# Altium footprint library 5M160ZE64.PcbLib: 9 footprints
Each footprint in its own frame and in the unit in brackets; x right, y up, seen from the top. Pads: shape width x height; smd on the part's side, far side on the other; paste and mask are expansions set on the pad; w line width, h text height; cw(c..) or ccw(c..) is an arc to the next point about the centre after c.
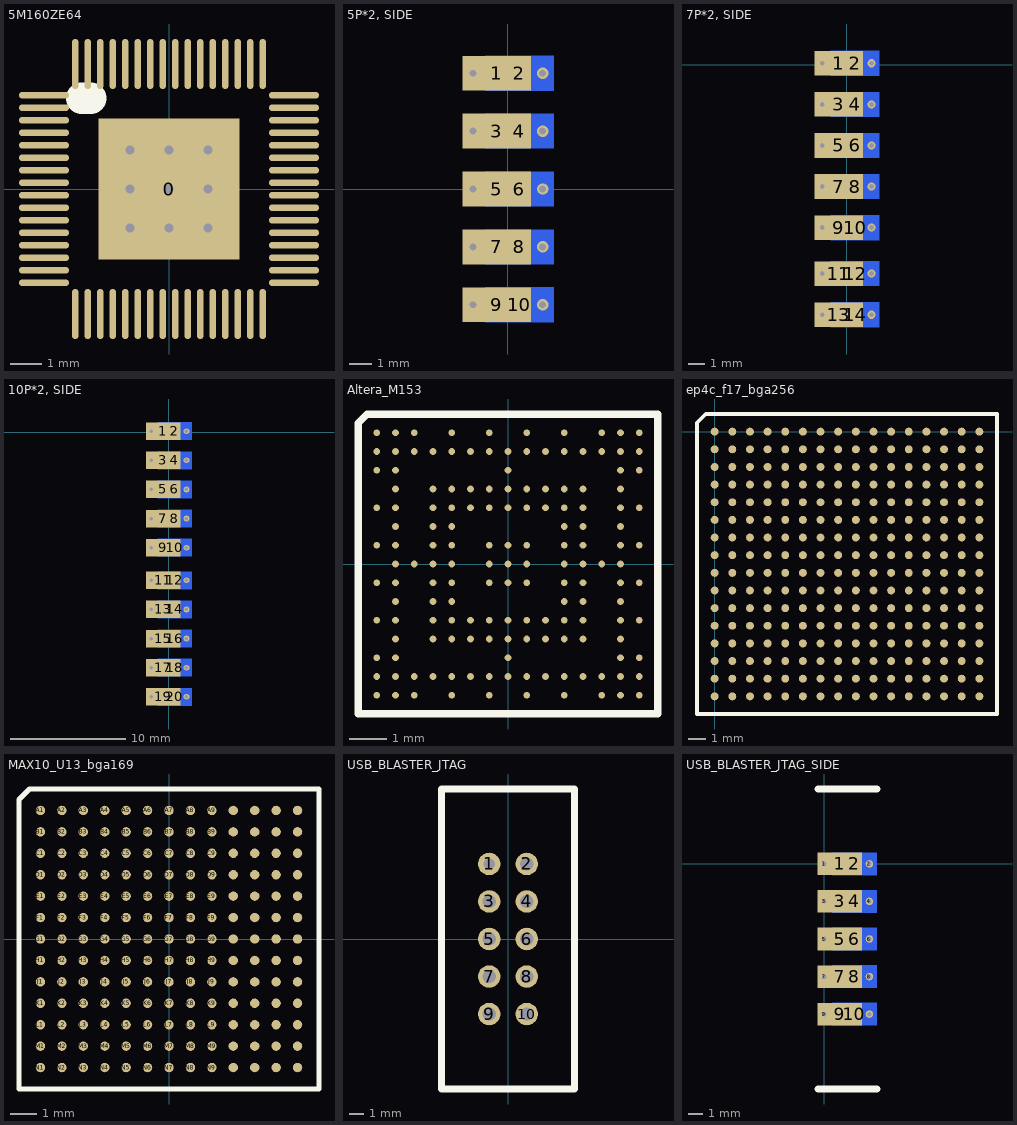
[diagram p0: the footprints below, top view; thin cyan lines are the x and y axes]

## 5M160ZE64 [mm]
pads (65):
  rect 4.5x4.5 smd: 0(0,0)
  oval 1.6x0.2 smd: 1(-4,3) 2(-4,2.6) 3(-4,2.2) 4(-4,1.8) 5(-4,1.4) 6(-4,1) 7(-4,0.6) 8(-4,0.2) 9(-4,-0.2) 10(-4,-0.6) 11(-4,-1) 12(-4,-1.4) 13(-4,-1.8) 14(-4,-2.2) 15(-4,-2.6) 16(-4,-3) 33(4,-3) 34(4,-2.6) 35(4,-2.2) 36(4,-1.8) 37(4,-1.4) 38(4,-1) 39(4,-0.6) 40(4,-0.2) 41(4,0.2) 42(4,0.6) 43(4,1) 44(4,1.4) 45(4,1.8) 46(4,2.2) 47(4,2.6) 48(4,3)
  oval 0.2x1.6 smd: 17(-3,-4) 18(-2.6,-4) 19(-2.2,-4) 20(-1.8,-4) 21(-1.4,-4) 22(-1,-4) 23(-0.6,-4) 24(-0.2,-4) 25(0.2,-4) 26(0.6,-4) 27(1,-4) 28(1.4,-4) 29(1.8,-4) 30(2.2,-4) 31(2.6,-4) 32(3,-4) 49(3,4) 50(2.6,4) 51(2.2,4) 52(1.8,4) 53(1.4,4) 54(1,4) 55(0.6,4) 56(0.2,4) 57(-0.2,4) 58(-0.6,4) 59(-1,4) 60(-1.4,4) 61(-1.8,4) 62(-2.2,4) 63(-2.6,4) 64(-3,4)
via 1.25,-1.25 diameter 0.5 hole 0.3
via 0,-1.25 diameter 0.5 hole 0.3
via -1.25,-1.25 diameter 0.5 hole 0.3
via -1.25,0 diameter 0.5 hole 0.3
via -1.25,1.25 diameter 0.5 hole 0.3
via 0,1.25 diameter 0.5 hole 0.3
via 1.25,1.25 diameter 0.5 hole 0.3
via 1.25,0 diameter 0.5 hole 0.3
via 0,0 diameter 0.5 hole 0.3
Top Overlay:
  lines w1: -2.8,2.9 -2.5,2.9
3D body: height 1, standoff 0, extent -3.5,-3.5 3.5,3.5

## 5P*2, SIDE [mm]
pads (10):
  rect 3x1.524 smd: 1(-0.5,5.08) 3(-0.5,2.54) 5(-0.5,0) 7(-0.5,-2.54) 9(-0.5,-5.08)
  rect 3x1.524 smd far side: 2(0.5,5.08) 4(0.5,2.54) 6(0.5,0) 8(0.5,-2.54) 10(0.5,-5.08)
via -1.532,5.08 diameter 0.5 hole 0.3
via -1.532,2.54 diameter 0.5 hole 0.3
via -1.532,0 diameter 0.5 hole 0.3
via -1.532,-2.54 diameter 0.5 hole 0.3
via -1.532,-5.08 diameter 0.5 hole 0.3
via 1.516,5.08 diameter 0.5 hole 0.3
via 1.516,2.54 diameter 0.5 hole 0.3
via 1.516,0 diameter 0.5 hole 0.3
via 1.516,-2.54 diameter 0.5 hole 0.3
via 1.516,-5.08 diameter 0.5 hole 0.3

## 7P*2, SIDE [mm]
pads (14):
  rect 3x1.524 smd: 1(-0.5,0.08) 3(-0.5,-2.46) 5(-0.5,-5) 7(-0.5,-7.54) 9(-0.5,-10.08) 11(-0.5,-12.92) 13(-0.5,-15.46)
  rect 3x1.524 smd far side: 2(0.5,0.08) 4(0.5,-2.46) 6(0.5,-5) 8(0.5,-7.54) 10(0.5,-10.08) 12(0.5,-12.92) 14(0.5,-15.46)
via -1.532,-12.92 diameter 0.5 hole 0.3
via -1.532,-15.46 diameter 0.5 hole 0.3
via 1.516,-12.92 diameter 0.5 hole 0.3
via 1.516,-15.46 diameter 0.5 hole 0.3
via 1.516,-10.08 diameter 0.5 hole 0.3
via 1.516,-7.54 diameter 0.5 hole 0.3
via 1.516,-5 diameter 0.5 hole 0.3
via 1.516,-2.46 diameter 0.5 hole 0.3
via 1.516,0.08 diameter 0.5 hole 0.3
via -1.532,-10.08 diameter 0.5 hole 0.3
via -1.532,-7.54 diameter 0.5 hole 0.3
via -1.532,-5 diameter 0.5 hole 0.3
via -1.532,-2.46 diameter 0.5 hole 0.3
via -1.532,0.08 diameter 0.5 hole 0.3

## 10P*2, SIDE [mm]
pads (20):
  rect 3x1.524 smd: 1(-0.5,0.08) 3(-0.5,-2.46) 5(-0.5,-5) 7(-0.5,-7.54) 9(-0.5,-10.08) 11(-0.5,-12.92) 13(-0.5,-15.46) 15(-0.5,-18) 17(-0.5,-20.54) 19(-0.5,-23.08)
  rect 3x1.524 smd far side: 2(0.5,0.08) 4(0.5,-2.46) 6(0.5,-5) 8(0.5,-7.54) 10(0.5,-10.08) 12(0.5,-12.92) 14(0.5,-15.46) 16(0.5,-18) 18(0.5,-20.54) 20(0.5,-23.08)
via -1.532,-12.92 diameter 0.5 hole 0.3
via -1.532,-15.46 diameter 0.5 hole 0.3
via -1.532,-18 diameter 0.5 hole 0.3
via -1.532,-20.54 diameter 0.5 hole 0.3
via -1.532,-23.08 diameter 0.5 hole 0.3
via 1.516,-12.92 diameter 0.5 hole 0.3
via 1.516,-15.46 diameter 0.5 hole 0.3
via 1.516,-18 diameter 0.5 hole 0.3
via 1.516,-20.54 diameter 0.5 hole 0.3
via 1.516,-23.08 diameter 0.5 hole 0.3
via 1.516,-10.08 diameter 0.5 hole 0.3
via 1.516,-7.54 diameter 0.5 hole 0.3
via 1.516,-5 diameter 0.5 hole 0.3
via 1.516,-2.46 diameter 0.5 hole 0.3
via 1.516,0.08 diameter 0.5 hole 0.3
via -1.532,-10.08 diameter 0.5 hole 0.3
via -1.532,-7.54 diameter 0.5 hole 0.3
via -1.532,-5 diameter 0.5 hole 0.3
via -1.532,-2.46 diameter 0.5 hole 0.3
via -1.532,0.08 diameter 0.5 hole 0.3

## Altera_M153 [mm]
pads (153):
  round 0.18 smd: A1(-3.5,3.5) A2(-3,3.5) A3(-2.5,3.5) A5(-1.5,3.5) A7(-0.5,3.5) A9(0.5,3.5) A11(1.5,3.5) A13(2.5,3.5) A14(3,3.5) A15(3.5,3.5) B1(-3.5,3) B2(-3,3) B3(-2.5,3) B4(-2,3) B5(-1.5,3) B6(-1,3) B7(-0.5,3) B8(0,3) B9(0.5,3) B10(1,3) B11(1.5,3) B12(2,3) B13(2.5,3) B14(3,3) B15(3.5,3) C1(-3.5,2.5) C2(-3,2.5) C8(0,2.5) C14(3,2.5) C15(3.5,2.5) D2(-3,2) D4(-2,2) D5(-1.5,2) D6(-1,2) D7(-0.5,2) D8(0,2) D9(0.5,2) D10(1,2) D11(1.5,2) D12(2,2) D14(3,2) E1(-3.5,1.5) E2(-3,1.5) E4(-2,1.5) E5(-1.5,1.5) E6(-1,1.5) E7(-0.5,1.5) E8(0,1.5) E9(0.5,1.5) E10(1,1.5) E11(1.5,1.5) E12(2,1.5) E14(3,1.5) E15(3.5,1.5) F2(-3,1) F4(-2,1) F5(-1.5,1) F11(1.5,1) F12(2,1) F14(3,1) G1(-3.5,0.5) G2(-3,0.5) G4(-2,0.5) G5(-1.5,0.5) G7(-0.5,0.5) G8(0,0.5) G9(0.5,0.5) G11(1.5,0.5) G12(2,0.5) G14(3,0.5) G15(3.5,0.5) H2(-3,0) H3(-2.5,0) H4(-2,0) H5(-1.5,0) H7(-0.5,0) H8(0,0) H9(0.5,0) H11(1.5,0) H12(2,0) H13(2.5,0) H14(3,0) J1(-3.5,-0.5) J2(-3,-0.5) J4(-2,-0.5) J5(-1.5,-0.5) J7(-0.5,-0.5) J8(0,-0.5) J9(0.5,-0.5) J11(1.5,-0.5) J12(2,-0.5) J14(3,-0.5) J15(3.5,-0.5) K2(-3,-1) K4(-2,-1) K5(-1.5,-1) K11(1.5,-1) K12(2,-1) K14(3,-1) L1(-3.5,-1.5) L2(-3,-1.5) L4(-2,-1.5) L5(-1.5,-1.5) L6(-1,-1.5) L7(-0.5,-1.5) L8(0,-1.5) L9(0.5,-1.5) L10(1,-1.5) L11(1.5,-1.5) L12(2,-1.5) L14(3,-1.5) L15(3.5,-1.5) M2(-3,-2) M4(-2,-2) M5(-1.5,-2) M6(-1,-2) M7(-0.5,-2) M8(0,-2) M9(0.5,-2) M10(1,-2) M11(1.5,-2) M12(2,-2) M14(3,-2) N1(-3.5,-2.5) N2(-3,-2.5) N8(0,-2.5) N14(3,-2.5) N15(3.5,-2.5) P1(-3.5,-3) P2(-3,-3) P3(-2.5,-3) P4(-2,-3) P5(-1.5,-3) P6(-1,-3) P7(-0.5,-3) P8(0,-3) P9(0.5,-3) P10(1,-3) P11(1.5,-3) P12(2,-3) P13(2.5,-3) P14(3,-3) P15(3.5,-3) R1(-3.5,-3.5) R2(-3,-3.5) R3(-2.5,-3.5) R5(-1.5,-3.5) R7(-0.5,-3.5) R9(0.5,-3.5) R11(1.5,-3.5) R13(2.5,-3.5) R14(3,-3.5) R15(3.5,-3.5)
Top Overlay:
  lines w0.2: -4,-4 -4,3.75 -3.75,4 4,4 4,-4 -4,-4

## ep4c_f17_bga256 [mm]
pads (256):
  round 0.45 smd: A1(0,0) A2(1,0) A3(2,0) A4(3,0) A5(4,0) A6(5,0) A7(6,0) A8(7,0) A9(8,0) A10(9,0) A11(10,0) A12(11,0) A13(12,0) A14(13,0) A15(14,0) A16(15,0) B1(0,-1) B2(1,-1) B3(2,-1) B4(3,-1) B5(4,-1) B6(5,-1) B7(6,-1) B8(7,-1) B9(8,-1) B10(9,-1) B11(10,-1) B12(11,-1) B13(12,-1) B14(13,-1) B15(14,-1) B16(15,-1) C1(0,-2) C2(1,-2) C3(2,-2) C4(3,-2) C5(4,-2) C6(5,-2) C7(6,-2) C8(7,-2) C9(8,-2) C10(9,-2) C11(10,-2) C12(11,-2) C13(12,-2) C14(13,-2) C15(14,-2) C16(15,-2) D1(0,-3) D2(1,-3) D3(2,-3) D4(3,-3) D5(4,-3) D6(5,-3) D7(6,-3) D8(7,-3) D9(8,-3) D10(9,-3) D11(10,-3) D12(11,-3) D13(12,-3) D14(13,-3) D15(14,-3) D16(15,-3) E1(0,-4) E2(1,-4) E3(2,-4) E4(3,-4) E5(4,-4) E6(5,-4) E7(6,-4) E8(7,-4) E9(8,-4) E10(9,-4) E11(10,-4) E12(11,-4) E13(12,-4) E14(13,-4) E15(14,-4) E16(15,-4) F1(0,-5) F2(1,-5) F3(2,-5) F4(3,-5) F5(4,-5) F6(5,-5) F7(6,-5) F8(7,-5) F9(8,-5) F10(9,-5) F11(10,-5) F12(11,-5) F13(12,-5) F14(13,-5) F15(14,-5) F16(15,-5) G1(0,-6) G2(1,-6) G3(2,-6) G4(3,-6) G5(4,-6) G6(5,-6) G7(6,-6) G8(7,-6) G9(8,-6) G10(9,-6) G11(10,-6) G12(11,-6) G13(12,-6) G14(13,-6) G15(14,-6) G16(15,-6) H1(0,-7) H2(1,-7) H3(2,-7) H4(3,-7) H5(4,-7) H6(5,-7) H7(6,-7) H8(7,-7) H9(8,-7) H10(9,-7) H11(10,-7) H12(11,-7) H13(12,-7) H14(13,-7) H15(14,-7) H16(15,-7) J1(0,-8) J2(1,-8) J3(2,-8) J4(3,-8) J5(4,-8) J6(5,-8) J7(6,-8) J8(7,-8) J9(8,-8) J10(9,-8) J11(10,-8) J12(11,-8) J13(12,-8) J14(13,-8) J15(14,-8) J16(15,-8) K1(0,-9) K2(1,-9) K3(2,-9) K4(3,-9) K5(4,-9) K6(5,-9) K7(6,-9) K8(7,-9) K9(8,-9) K10(9,-9) K11(10,-9) K12(11,-9) K13(12,-9) K14(13,-9) K15(14,-9) K16(15,-9) L1(0,-10) L2(1,-10) L3(2,-10) L4(3,-10) L5(4,-10) L6(5,-10) L7(6,-10) L8(7,-10) L9(8,-10) L10(9,-10) L11(10,-10) L12(11,-10) L13(12,-10) L14(13,-10) L15(14,-10) L16(15,-10) M1(0,-11) M2(1,-11) M3(2,-11) M4(3,-11) M5(4,-11) M6(5,-11) M7(6,-11) M8(7,-11) M9(8,-11) M10(9,-11) M11(10,-11) M12(11,-11) M13(12,-11) M14(13,-11) M15(14,-11) M16(15,-11) N1(0,-12) N2(1,-12) N3(2,-12) N4(3,-12) N5(4,-12) N6(5,-12) N7(6,-12) N8(7,-12) N9(8,-12) N10(9,-12) N11(10,-12) N12(11,-12) N13(12,-12) N14(13,-12) N15(14,-12) N16(15,-12) P1(0,-13) P2(1,-13) P3(2,-13) P4(3,-13) P5(4,-13) P6(5,-13) P7(6,-13) P8(7,-13) P9(8,-13) P10(9,-13) P11(10,-13) P12(11,-13) P13(12,-13) P14(13,-13) P15(14,-13) P16(15,-13) R1(0,-14) R2(1,-14) R3(2,-14) R4(3,-14) R5(4,-14) R6(5,-14) R7(6,-14) R8(7,-14) R9(8,-14) R10(9,-14) R11(10,-14) R12(11,-14) R13(12,-14) R14(13,-14) R15(14,-14) R16(15,-14) T1(0,-15) T2(1,-15) T3(2,-15) T4(3,-15) T5(4,-15) T6(5,-15) T7(6,-15) T8(7,-15) T9(8,-15) T10(9,-15) T11(10,-15) T12(11,-15) T13(12,-15) T14(13,-15) T15(14,-15) T16(15,-15)
Top Overlay:
  lines w0.2: -1,-16 -1,0.5 -0.5,1 16,1 16,-16 -1,-16

## MAX10_U13_bga169 [mm]
pads (169):
  round 0.35 smd: A1(-4.8,4.8) A2(-4,4.8) A3(-3.2,4.8) A4(-2.4,4.8) A5(-1.6,4.8) A6(-0.8,4.8) A7(0,4.8) A8(0.8,4.8) A9(1.6,4.8) A10(2.4,4.8) A11(3.2,4.8) A12(4,4.8) A13(4.8,4.8) B1(-4.8,4) B2(-4,4) B3(-3.2,4) B4(-2.4,4) B5(-1.6,4) B6(-0.8,4) B7(0,4) B8(0.8,4) B9(1.6,4) B10(2.4,4) B11(3.2,4) B12(4,4) B13(4.8,4) C1(-4.8,3.2) C2(-4,3.2) C3(-3.2,3.2) C4(-2.4,3.2) C5(-1.6,3.2) C6(-0.8,3.2) C7(0,3.2) C8(0.8,3.2) C9(1.6,3.2) C10(2.4,3.2) C11(3.2,3.2) C12(4,3.2) C13(4.8,3.2) D1(-4.8,2.4) D2(-4,2.4) D3(-3.2,2.4) D4(-2.4,2.4) D5(-1.6,2.4) D6(-0.8,2.4) D7(0,2.4) D8(0.8,2.4) D9(1.6,2.4) D10(2.4,2.4) D11(3.2,2.4) D12(4,2.4) D13(4.8,2.4) E1(-4.8,1.6) E2(-4,1.6) E3(-3.2,1.6) E4(-2.4,1.6) E5(-1.6,1.6) E6(-0.8,1.6) E7(0,1.6) E8(0.8,1.6) E9(1.6,1.6) E10(2.4,1.6) E11(3.2,1.6) E12(4,1.6) E13(4.8,1.6) F1(-4.8,0.8) F2(-4,0.8) F3(-3.2,0.8) F4(-2.4,0.8) F5(-1.6,0.8) F6(-0.8,0.8) F7(0,0.8) F8(0.8,0.8) F9(1.6,0.8) F10(2.4,0.8) F11(3.2,0.8) F12(4,0.8) F13(4.8,0.8) G1(-4.8,0) G2(-4,0) G3(-3.2,0) G4(-2.4,0) G5(-1.6,0) G6(-0.8,0) G7(0,0) G8(0.8,0) G9(1.6,0) G10(2.4,0) G11(3.2,0) G12(4,0) G13(4.8,0) H1(-4.8,-0.8) H2(-4,-0.8) H3(-3.2,-0.8) H4(-2.4,-0.8) H5(-1.6,-0.8) H6(-0.8,-0.8) H7(0,-0.8) H8(0.8,-0.8) H9(1.6,-0.8) H10(2.4,-0.8) H11(3.2,-0.8) H12(4,-0.8) H13(4.8,-0.8) J1(-4.8,-1.6) J2(-4,-1.6) J3(-3.2,-1.6) J4(-2.4,-1.6) J5(-1.6,-1.6) J6(-0.8,-1.6) J7(0,-1.6) J8(0.8,-1.6) J9(1.6,-1.6) J10(2.4,-1.6) J11(3.2,-1.6) J12(4,-1.6) J13(4.8,-1.6) K1(-4.8,-2.4) K2(-4,-2.4) K3(-3.2,-2.4) K4(-2.4,-2.4) K5(-1.6,-2.4) K6(-0.8,-2.4) K7(0,-2.4) K8(0.8,-2.4) K9(1.6,-2.4) K10(2.4,-2.4) K11(3.2,-2.4) K12(4,-2.4) K13(4.8,-2.4) L1(-4.8,-3.2) L2(-4,-3.2) L3(-3.2,-3.2) L4(-2.4,-3.2) L5(-1.6,-3.2) L6(-0.8,-3.2) L7(0,-3.2) L8(0.8,-3.2) L9(1.6,-3.2) L10(2.4,-3.2) L11(3.2,-3.2) L12(4,-3.2) L13(4.8,-3.2) M1(-4.8,-4) M2(-4,-4) M3(-3.2,-4) M4(-2.4,-4) M5(-1.6,-4) M6(-0.8,-4) M7(0,-4) M8(0.8,-4) M9(1.6,-4) M10(2.4,-4) M11(3.2,-4) M12(4,-4) M13(4.8,-4) N1(-4.8,-4.8) N2(-4,-4.8) N3(-3.2,-4.8) N4(-2.4,-4.8) N5(-1.6,-4.8) N6(-0.8,-4.8) N7(0,-4.8) N8(0.8,-4.8) N9(1.6,-4.8) N10(2.4,-4.8) N11(3.2,-4.8) N12(4,-4.8) N13(4.8,-4.8)
Top Overlay:
  lines w0.2: -5.6,-5.6 5.6,-5.6 5.6,5.6 -5.2,5.6 -5.6,5.2 -5.6,-5.6

## USB_BLASTER_JTAG [mil]
pads (10):
  round 60 hole 30: 1(-50,200)
  round 60 hole 35: 2(50,200) 3(-50,100) 4(50,100) 5(-50,0) 6(50,0) 7(-50,-100) 8(50,-100) 9(-50,-200) 10(50,-200)
Top Overlay:
  lines w19.68: -177.17,-399.61 -177.17,399.61 177.17,399.61 177.17,-399.61 -177.17,-399.61

## USB_BLASTER_JTAG_SIDE [mil]
pads (20):
  round 20 hole 12: 1(0,0) 2(120,0) 3(0,-100) 4(120,-100) 5(0,-200) 6(120,-200) 7(0,-300) 8(120,-300) 9(0,-400) 10(120,-400)
  rect 118.11x60 smd: 1(40.63,0) 3(40.63,-100) 5(40.63,-200) 7(40.63,-300) 9(40.63,-400)
  rect 118.11x60 smd far side: 2(80,0) 4(80,-100) 6(80,-200) 8(80,-300) 10(80,-400)
Top Overlay:
  lines w19.68: -16.85,-599.61 139.06,-599.61 ; -16.85,199.61 139.06,199.61